# Altium footprint library E-Nose&Alphasense.PcbLib: 23 footprints (part 2 of 2)
Each footprint in its own frame and in the unit in brackets; x right, y up, seen from the top. Pads: shape width x height; smd on the part's side, far side on the other; paste and mask are expansions set on the pad; w line width, h text height; cw(c..) or ccw(c..) is an arc to the next point about the centre after c.
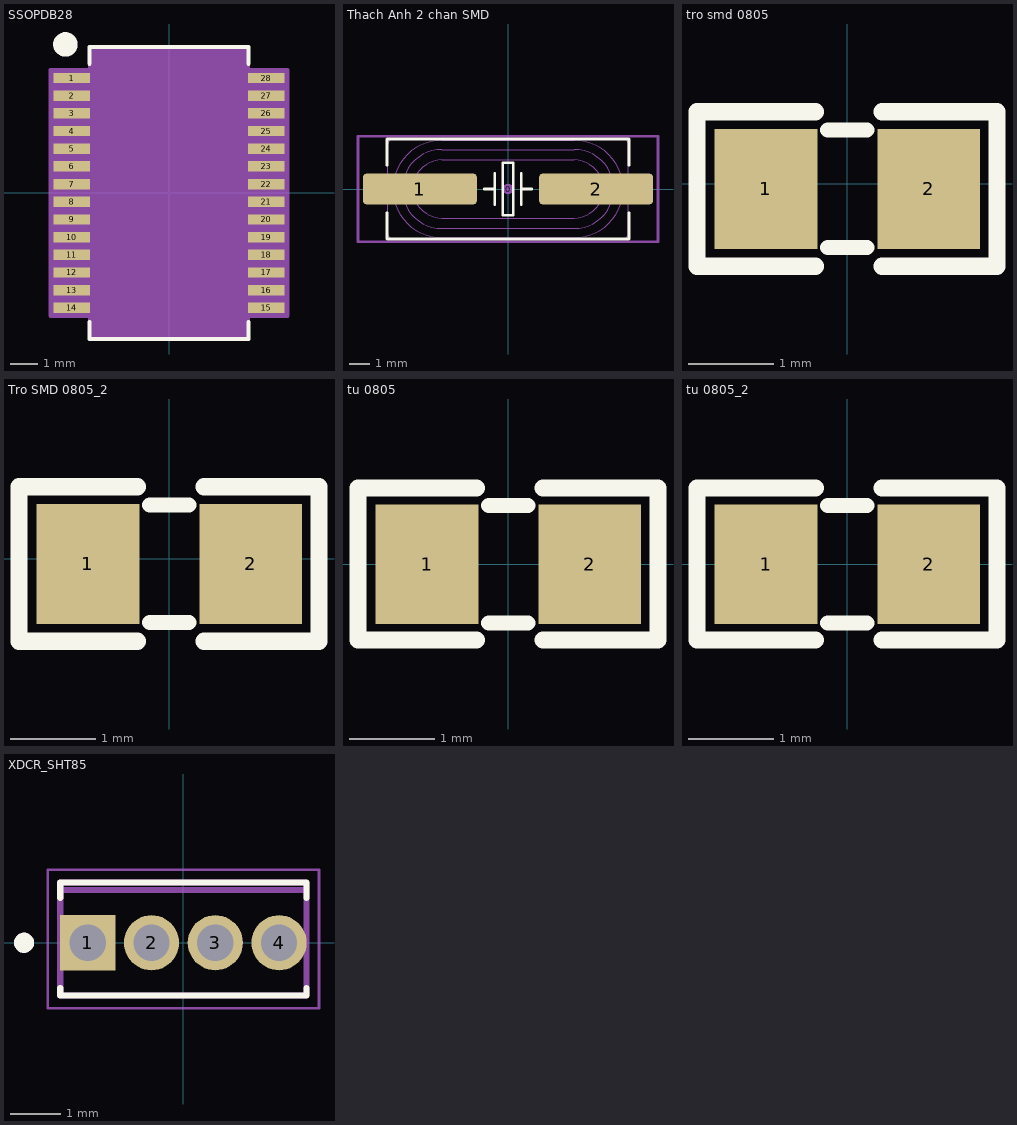
[diagram p1: the footprints below, top view; thin cyan lines are the x and y axes]

## SSOPDB28 [mil]
pads (28):
  rect 53x15 smd paste+0 mask+0: 1(-141,166.34) 2(-141,140.75) 3(-141,115.16) 4(-141,89.57) 5(-141,63.98) 6(-141,38.39) 7(-141,12.8) 8(-141,-12.8) 9(-141,-38.39) 10(-141,-63.98) 11(-141,-89.57) 12(-141,-115.16) 13(-141,-140.75) 14(-141,-166.34) 15(141,-166.34) 16(141,-140.75) 17(141,-115.16) 18(141,-89.57) 19(141,-63.98) 20(141,-38.39) 21(141,-12.8) 22(141,12.8) 23(141,38.39) 24(141,63.98) 25(141,89.57) 26(141,115.16) 27(141,140.75) 28(141,166.34)
Top Overlay:
  circle w19.68: c-150,215 r7.87
  lines w6: -115,-186.94 -115,-211.5 115,-211.5 115,-186.94 ; -115,186.94 -115,211.5 115,211.5 115,186.94
Mechanical 13:
  lines w0: -12,206.5 ccw(c0,206.5) 12,206.5
  lines w1: -161.5,-173.84 -110,-173.84 -110,-158.84 -161.5,-158.84 -161.5,-173.84 ; -161.5,-148.25 -110,-148.25 -110,-133.25 -161.5,-133.25 -161.5,-148.25 ; -161.5,-122.66 -110,-122.66 -110,-107.66 -161.5,-107.66 -161.5,-122.66 ; -161.5,-97.07 -110,-97.07 -110,-82.07 -161.5,-82.07 -161.5,-97.07 ; -161.5,-71.48 -110,-71.48 -110,-56.48 -161.5,-56.48 -161.5,-71.48 ; -161.5,-45.89 -110,-45.89 -110,-30.89 -161.5,-30.89 -161.5,-45.89 ; -161.5,-20.3 -110,-20.3 -110,-5.3 -161.5,-5.3 -161.5,-20.3 ; -161.5,5.3 -110,5.3 -110,20.3 -161.5,20.3 -161.5,5.3 ; -161.5,30.89 -110,30.89 -110,45.89 -161.5,45.89 -161.5,30.89 ; -161.5,56.48 -110,56.48 -110,71.48 -161.5,71.48 -161.5,56.48 ; -161.5,82.07 -110,82.07 -110,97.07 -161.5,97.07 -161.5,82.07 ; -161.5,107.66 -110,107.66 -110,122.66 -161.5,122.66 -161.5,107.66 ; -161.5,133.25 -110,133.25 -110,148.25 -161.5,148.25 -161.5,133.25 ; -161.5,158.84 -110,158.84 -110,173.84 -161.5,173.84 -161.5,158.84 ; -110,-206.5 -110,206.5 110,206.5 110,-206.5 -110,-206.5 ; 110,-173.84 161.5,-173.84 161.5,-158.84 110,-158.84 110,-173.84 ; 110,-148.25 161.5,-148.25 161.5,-133.25 110,-133.25 110,-148.25 ; 110,-122.66 161.5,-122.66 161.5,-107.66 110,-107.66 110,-122.66 ; 110,-97.07 161.5,-97.07 161.5,-82.07 110,-82.07 110,-97.07 ; 110,-71.48 161.5,-71.48 161.5,-56.48 110,-56.48 110,-71.48 ; 110,-45.89 161.5,-45.89 161.5,-30.89 110,-30.89 110,-45.89 ; 110,-20.3 161.5,-20.3 161.5,-5.3 110,-5.3 110,-20.3 ; 110,5.3 161.5,5.3 161.5,20.3 110,20.3 110,5.3 ; 110,30.89 161.5,30.89 161.5,45.89 110,45.89 110,30.89 ; 110,56.48 161.5,56.48 161.5,71.48 110,71.48 110,56.48 ; 110,82.07 161.5,82.07 161.5,97.07 110,97.07 110,82.07 ; 110,107.66 161.5,107.66 161.5,122.66 110,122.66 110,107.66 ; 110,133.25 161.5,133.25 161.5,148.25 110,148.25 110,133.25 ; 110,158.84 161.5,158.84 161.5,173.84 110,173.84 110,158.84
  text "*" at -107.5,153.5 h50
Mechanical 15:
  region: -114,-177.84 -171.5,-177.84 -171.5,177.84 -114,177.84 -114,210.5 114,210.5 114,177.84 171.5,177.84 171.5,-177.84 114,-177.84 114,-210.5 -114,-210.5
  lines w6: -171.5,-177.84 -114,-177.84 -114,-210.5 114,-210.5 114,-177.84 171.5,-177.84 171.5,177.84 114,177.84 114,210.5 -114,210.5 -114,177.84 -171.5,177.84 -171.5,-177.84
3D body "DB28.step": height 79.09, standoff 0, extent -161.5,-206.5 161.5,206.5

## Thach Anh 2 chan SMD [mm] "SMD Crystal HC49/US-SM package"
height 4.3
pads (3):
  round 0.508 on Mech15: 0(0,0)
  rrect25% 5.5x1.5 smd: 1(-4.25,0) 2(4.25,0)
Top Overlay:
  lines w0.127: -5.842,-1.143 -5.842,-2.413 5.842,-2.413 5.842,-1.143 ; -5.842,1.143 -5.842,2.413 5.842,2.413 5.842,1.143 ; -1.143,0 -0.635,0 ; -0.635,-0.762 -0.635,0.762 ; 0.635,-0.762 0.635,0.762 ; 0.635,0 1.143,0 ; -0.254,-1.27 -0.254,1.27 0.254,1.27 0.254,-1.27 -0.254,-1.27
Mechanical 13:
  lines w0.05: -5.8,-0.45 -6.4,-0.45 -6.4,0.45 -5.8,0.45 ; 5.8,-0.45 6.4,-0.45 6.4,0.45 5.8,0.45 ; -5.8,-2.165 ccw(c-5.55,-2.165) -5.55,-2.415 5.55,-2.415 ccw(c5.55,-2.165) 5.8,-2.165 5.8,2.165 ccw(c5.55,2.165) 5.55,2.415 -5.55,2.415 ccw(c-5.55,2.165) -5.8,2.165 -5.8,-2.165 ; -3.2,-2.35 cw(c-3.2,0) -3.2,2.35 3.2,2.35 cw(c3.2,0) 3.2,-2.35 -3.2,-2.35 ; -3.2,-1.9 cw(c-3.2,0) -3.2,1.9 3.2,1.9 cw(c3.2,0) 3.2,-1.9 -3.2,-1.9 ; -3.2,-1.4 cw(c-3.2,0) -3.2,1.4 3.2,1.4 cw(c3.2,0) 3.2,-1.4 -3.2,-1.4
Mechanical 15:
  lines w0.127: -7.239,-2.54 -7.239,2.54 7.239,2.54 7.239,-2.54 -7.239,-2.54
3D body "Crystal HC49_US-SM.STEP": height 4.29, standoff -0.01, extent -6.4,-2.415 6.4,2.415

## tro smd 0805 [mm]
pads (2):
  rect 1.2x1.4 smd: 1(-0.946,-0.061) 2(0.954,-0.061)
Top Overlay:
  lines w0.178: -0.224,-0.747 0.233,-0.747 ; -0.224,0.625 0.233,0.625
  lines w0.2: -0.367,-0.965 -1.75,-0.965 -1.75,0.838 -0.367,0.838 ; 0.408,-0.965 1.75,-0.965 1.75,0.838 0.408,0.838
3D body "Tro 0805.STEP": height 0.53, standoff 0, extent -1.562,-0.763 1.438,0.637

## Tro SMD 0805_2 [mm]
pads (2):
  rect 1.2x1.4 smd: 1(-0.946,-0.061) 2(0.954,-0.061)
Top Overlay:
  lines w0.178: -0.224,-0.747 0.233,-0.747 ; -0.224,0.625 0.233,0.625
  lines w0.2: -0.367,-0.965 -1.75,-0.965 -1.75,0.838 -0.367,0.838 ; 0.408,-0.965 1.75,-0.965 1.75,0.838 0.408,0.838
3D body "Tro 0805.STEP": height 0.53, standoff 0, extent -1.562,-0.763 1.438,0.637

## tu 0805 [mm] "Compoment SMD 80x50mil"
height 1.27
pads (2):
  rect 1.2x1.4 smd: 1(-0.946,-0.003) 2(0.954,-0.003)
Top Overlay:
  lines w0.178: -0.224,-0.689 0.233,-0.689 ; -0.224,0.682 0.233,0.682
  lines w0.2: -0.367,-0.889 -1.753,-0.889 -1.753,0.889 -0.367,0.889 ; 0.408,-0.889 1.753,-0.889 1.753,0.889 0.408,0.889
3D body "SW3dPS-smt_resistor_packages.STEP": height 0.61, standoff -0.01, extent -1.006,-0.638 1.014,0.632

## tu 0805_2 [mm]
pads (2):
  rect 1.2x1.4 smd: 1(-0.946,-0.003) 2(0.954,-0.003)
Top Overlay:
  lines w0.178: -0.224,-0.689 0.233,-0.689 ; -0.224,0.682 0.233,0.682
  lines w0.2: -0.367,-0.889 -1.753,-0.889 -1.753,0.889 -0.367,0.889 ; 0.408,-0.889 1.753,-0.889 1.753,0.889 0.408,0.889
3D body "SW3dPS-smt_resistor_packages.STEP": height 0.61, standoff -0.01, extent -1.006,-0.638 1.014,0.632

## XDCR_SHT85 [mm]
pads (4):
  rect 1.1x1.1 hole 0.72: 1(-1.905,0)
  round 1.1 hole 0.72: 2(-0.635,0) 3(0.635,0) 4(1.905,0)
Top Overlay:
  circle w0.2: c-3.175,0 r0.1
  lines w0.127: -2.45,-0.9 -2.45,-1.05 2.45,-1.05 2.45,-0.9 ; -2.45,0.9 -2.45,1.2 2.45,1.2 2.45,0.9
Mechanical 13:
  circle w0.2: c-3.175,0 r0.1
  lines w0.127: -2.45,1.05 2.45,1.05 ; -2.45,1.05 -2.45,-1.05 2.45,-1.05 2.45,1.05 ; -2.45,1.05 -2.45,1.2 2.45,1.2 2.45,1.05
Mechanical 15:
  lines w0.05: -2.7,-1.3 2.7,-1.3 2.7,1.45 -2.7,1.45 -2.7,-1.3
3D body "Sensirion_Humidity_Sensors_SHT85_STEP_File_V1_D2.step": height 14.88, standoff -2.9, extent -2.54,-1.05 2.54,1.2